# EAGLE library part 68711214022 (library Eagle_FPC_CONNECTOR_AND_FFC_CAB (rev18c))
WR-FPC 0.5mm SMT ZIF Horizontal Top Contact, 12 Pins=>Code : Con_FPC_ZIF_0.50_68711214022 <http://katalog.we-online.de/media/images/eican/Con_FPC_ZIF_0.50_6871xx14022_pf2.jpg> Details see: http://katalog.we-online.de/en/em/687_1xx_140_22 Created 2014-07-09, Karrer Zheng 2014 (C) Würth Elektronik
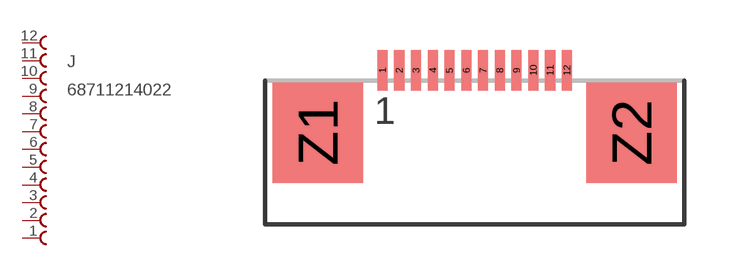
[diagram p19: symbol with the pads of 68711214022; footprint 68711214022]

Designator prefix J

## 68711214022  [68711214022]
1  12  pas
2  11  pas
3  10  pas
4  9  pas
5  8  pas
6  7  pas
7  6  pas
8  5  pas
9  4  pas
10  3  pas
11  2  pas
12  1  pas

## Footprint 68711214022 (pad centres in mm)
WR-FPC 0.5mm SMT ZIF Horizontal Top Contact, 12 Pins
smd 0.3 x 1.2: 1 -2.75,1.86; 2 -2.25,1.86; 3 -1.75,1.86; 4 -1.25,1.86; 5 -0.75,1.86; 6 -0.25,1.86; 7 0.25,1.86; 8 0.75,1.86; 9 1.25,1.86; 10 1.75,1.86; 11 2.25,1.86; 12 2.75,1.86
smd 2.7 x 3: Z1 -4.68,0; Z2 4.68,0